# EAGLE library part JTAG20 (library jtag)
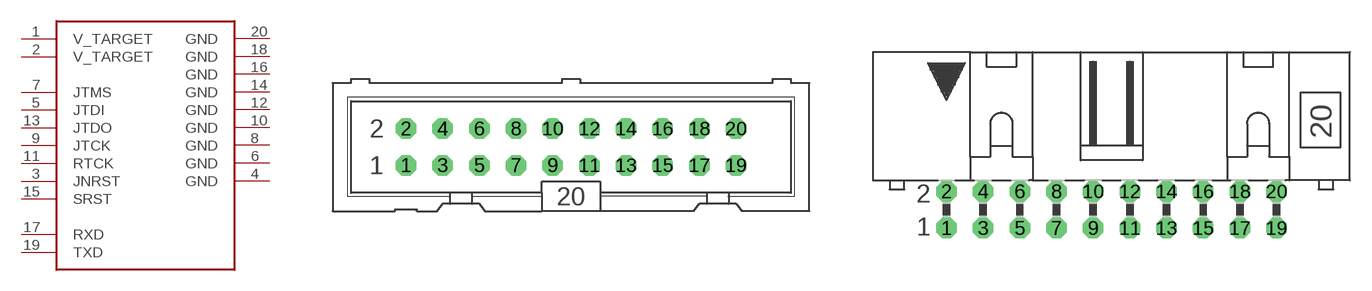
[diagram p0: symbol with the pads of ML20; footprints ML20, ML20L]

Designator prefix X

## JTAG20GERADE  [ML20]
1  V_TARGET
2  V_TARGET
3  JNRST
4  GND
5  JTDI
6  GND
7  JTMS
8  GND
9  JTCK
10  GND
11  RTCK
12  GND
13  JTDO
14  GND
15  SRST
16  GND
17  RXD
18  GND
19  TXD
20  GND

## JTAG20GEWINKELT  [ML20L]
Pads as for ML20

## JTAG20PLATINE  [SMT_IDC20]
1  V_TARGET
2  V_TARGET
3  JNRST
4  GND
5  JTDI
6  GND
7  JTMS
8  GND
9  JTCK
10  GND
11  RTCK
12  GND
13  JTDO
14  GND
15  SRST
16  GND
17  TXD
18  GND
19  RXD
20  GND

## Footprint ML20 (pad centres in mm)
HARTING
drill 0.914 octagon: 1 -11.43,-1.27; 2 -11.43,1.27; 3 -8.89,-1.27; 4 -8.89,1.27; 5 -6.35,-1.27; 6 -6.35,1.27; 7 -3.81,-1.27; 8 -3.81,1.27; 9 -1.27,-1.27; 10 -1.27,1.27; 11 1.27,-1.27; 12 1.27,1.27; 13 3.81,-1.27; 14 3.81,1.27; 15 6.35,-1.27; 16 6.35,1.27; 17 8.89,-1.27; 18 8.89,1.27; 19 11.43,-1.27; 20 11.43,1.27

## Footprint ML20L (pad centres in mm)
HARTING
drill 0.914 octagon: 1 -11.43,-1.27; 2 -11.43,1.27; 3 -8.89,-1.27; 4 -8.89,1.27; 5 -6.35,-1.27; 6 -6.35,1.27; 7 -3.81,-1.27; 8 -3.81,1.27; 9 -1.27,-1.27; 10 -1.27,1.27; 11 1.27,-1.27; 12 1.27,1.27; 13 3.81,-1.27; 14 3.81,1.27; 15 6.35,-1.27; 16 6.35,1.27; 17 8.89,-1.27; 18 8.89,1.27; 19 11.43,-1.27; 20 11.43,1.27

## Footprint SMT_IDC20 (pad centres in mm)
Stiftleiste zum seitlichen anlöten an die Platine
smd 2.54 x 1.27: 1 0,0; 3 0,2.54; 5 0,5.08; 7 0,7.62; 9 0,10.16; 11 0,12.7; 13 0,15.24; 15 0,17.78; 17 0,20.32; 19 0,22.86
smd 2.54 x 1.27 bottom: 2 0,0; 4 0,2.54; 6 0,5.08; 8 0,7.62; 10 0,10.16; 12 0,12.7; 14 0,15.24; 16 0,17.78; 18 0,20.32; 20 0,22.86